# EAGLE library part ADS1232IPWR (library ADS1232IPWR)
24-Bit, 80SPS, 2-Ch (Differential), Pin-Programmable Delta-Sigma ADC for Bridge Sensors Source: Datasheet <http://www.ti.com/lit/ds/symlink/ads1232.pdf>
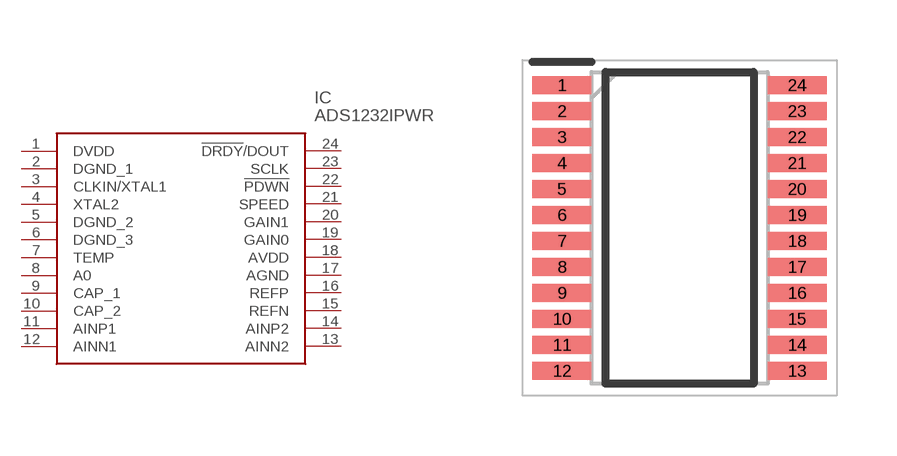
[diagram p0: symbol with the pads of SOP65P640X120-24N; footprint SOP65P640X120-24N]

Designator prefix IC

## ADS1232IPWR (Arrow_Part_Number: ADS1232IPWR; Arrow_Price-Stock: https://www.arrow.com/en/products/ads1232ipwr/texas-instruments; Description: 24-Bit, 80SPS, 2-Ch (Differential), Pin-Programmable Delta-Sigma ADC for Bridge Sensors; Height: 1.2mm; Manufacturer_Name: Texas Instruments; Manufacturer_Part_Number: ADS1232IPWR; Mouser_Part_Number: 595-ADS1232IPWR; Mouser_Price-Stock: https://www.mouser.co.uk/ProductDetail/Texas-Instruments/ADS1232IPWR?qs=RaXRGs7zCv4BjWfKxNB1Dw%3D%3D)  [SOP65P640X120-24N]
1  DVDD
2  DGND_1
3  CLKIN/XTAL1
4  XTAL2
5  DGND_2
6  DGND_3
7  TEMP
8  A0
9  CAP_1
10  CAP_2
11  AINP1
12  AINN1
13  AINN2
14  AINP2
15  REFN
16  REFP
17  AGND
18  AVDD
19  GAIN0
20  GAIN1
21  SPEED
22  !PDWN
23  SCLK
24  !DRDY!/DOUT

## Footprint SOP65P640X120-24N (pad centres in mm)
ADS1232IPWR-1
smd 1.475 x 0.45: 1 -2.938,3.575; 2 -2.938,2.925; 3 -2.938,2.275; 4 -2.938,1.625; 5 -2.938,0.975; 6 -2.938,0.325; 7 -2.938,-0.325; 8 -2.938,-0.975; 9 -2.938,-1.625; 10 -2.938,-2.275; 11 -2.938,-2.925; 12 -2.938,-3.575; 13 2.938,-3.575; 14 2.938,-2.925; 15 2.938,-2.275; 16 2.938,-1.625; 17 2.938,-0.975; 18 2.938,-0.325; 19 2.938,0.325; 20 2.938,0.975; 21 2.938,1.625; 22 2.938,2.275; 23 2.938,2.925; 24 2.938,3.575